# Altium footprint library TSMT3.PcbLib: 1 footprints
Each footprint in its own frame and in the unit in brackets; x right, y up, seen from the top. Pads: shape width x height; smd on the part's side, far side on the other; paste and mask are expansions set on the pad; w line width, h text height; cw(c..) or ccw(c..) is an arc to the next point about the centre after c.
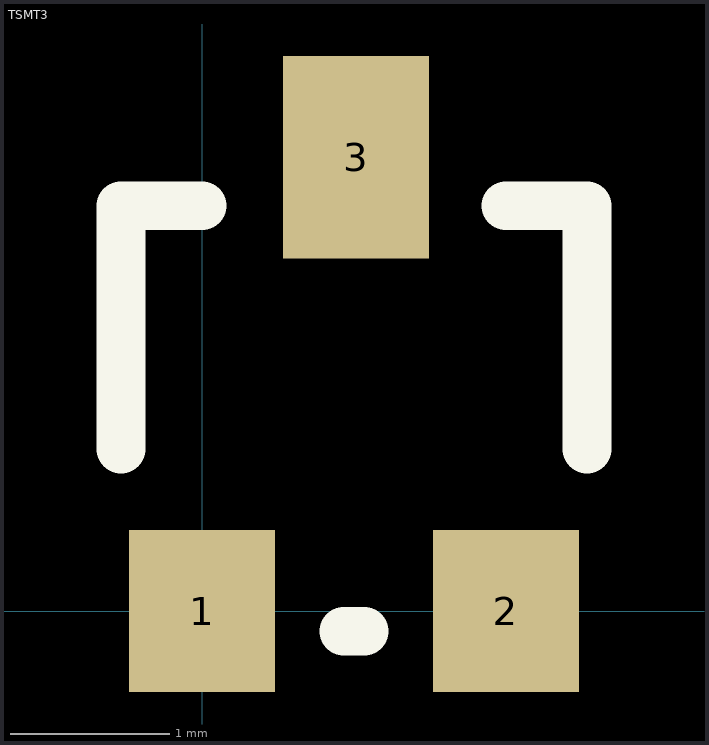
[diagram p0: the footprint, top view; thin cyan lines are the x and y axes]

## TSMT3 [mil]
height 40
pads (3):
  rect 36x40 smd: 1(0,0) 2(75,0)
  rect 36x50 smd: 3(38,112)
TopOverlay:
  lines w12: -20,40 -20,100 0,100 ; 35,-5 40,-5 ; 75,100 95,100 95,40
Mechanical4:
  text ".040" at 0,0 h1